# EAGLE library part MBC5 (library retrogaming)
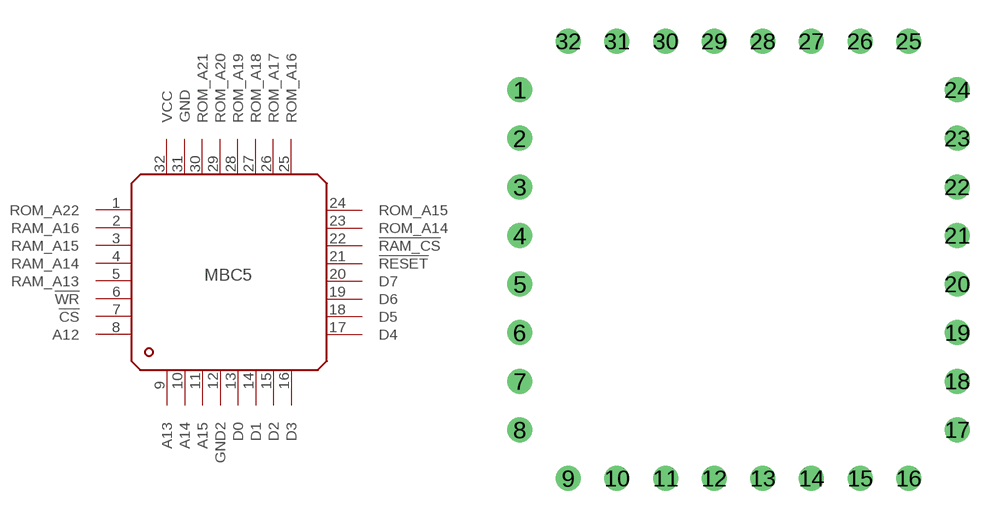
[diagram p3: symbol with the pads of TQFP32; footprint TQFP32]

Designator prefix -

## MBC5  [TQFP32]
1  ROM_A22
2  RAM_A16
3  RAM_A15
4  RAM_A14
5  RAM_A13
6  !WR!
7  !CS!
8  A12
9  A13
10  A14
11  A15
12  GND2
13  D0
14  D1
15  D2
16  D3
17  D4
18  D5
19  D6
20  D7
21  !RESET!
22  !RAM_CS!
23  ROM_A14
24  ROM_A15
25  ROM_A16
26  ROM_A17
27  ROM_A18
28  ROM_A19
29  ROM_A20
30  ROM_A21
31  GND
32  VCC

## Footprint TQFP32 (pad centres in mm)
drill 0.8: 1 -6.35,7.62; 2 -6.35,5.08; 3 -6.35,2.54; 4 -6.35,0; 5 -6.35,-2.54; 6 -6.35,-5.08; 7 -6.35,-7.62; 8 -6.35,-10.16; 9 -3.81,-12.7; 10 -1.27,-12.7; 11 1.27,-12.7; 12 3.81,-12.7; 13 6.35,-12.7; 14 8.89,-12.7; 15 11.43,-12.7; 16 13.97,-12.7; 17 16.51,-10.16; 18 16.51,-7.62; 19 16.51,-5.08; 20 16.51,-2.54; 21 16.51,0; 22 16.51,2.54; 23 16.51,5.08; 24 16.51,7.62; 25 13.97,10.16; 26 11.43,10.16; 27 8.89,10.16; 28 6.35,10.16; 29 3.81,10.16; 30 1.27,10.16; 31 -1.27,10.16; 32 -3.81,10.16